# EAGLE library part CONN-8PIN-HEADER (library me)
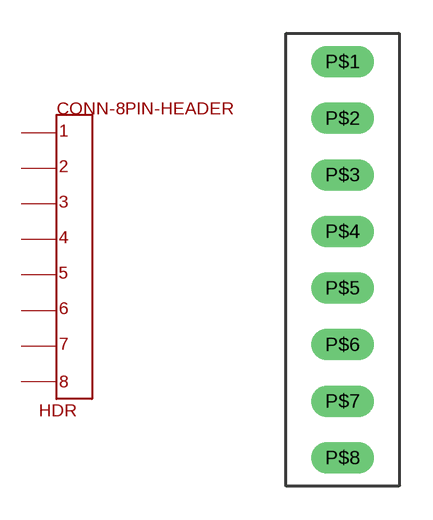
[diagram p9: symbol with the pads of CONN-8; footprint CONN-8]

Designator prefix HDR

## CONN-8PIN-HEADER  [CONN-8]
P$1  P$1
P$2  P$2
P$3  P$3
P$4  P$4
P$5  P$5
P$6  P$6
P$7  P$7
P$8  P$8

## Footprint CONN-8 (pad centres in mm)
drill 0.9 long: P$1 0,8.89; P$2 0,6.35; P$3 0,3.81; P$4 0,1.27; P$5 0,-1.27; P$6 0,-3.81; P$7 0,-6.35; P$8 0,-8.89